# Altium schematic symbol library HIGH_LEVEL_ELECTRONICS_SCH_LIB.SchLib: 16 symbols
Pins are listed as number, name and electrical type; pins without a type are passive.

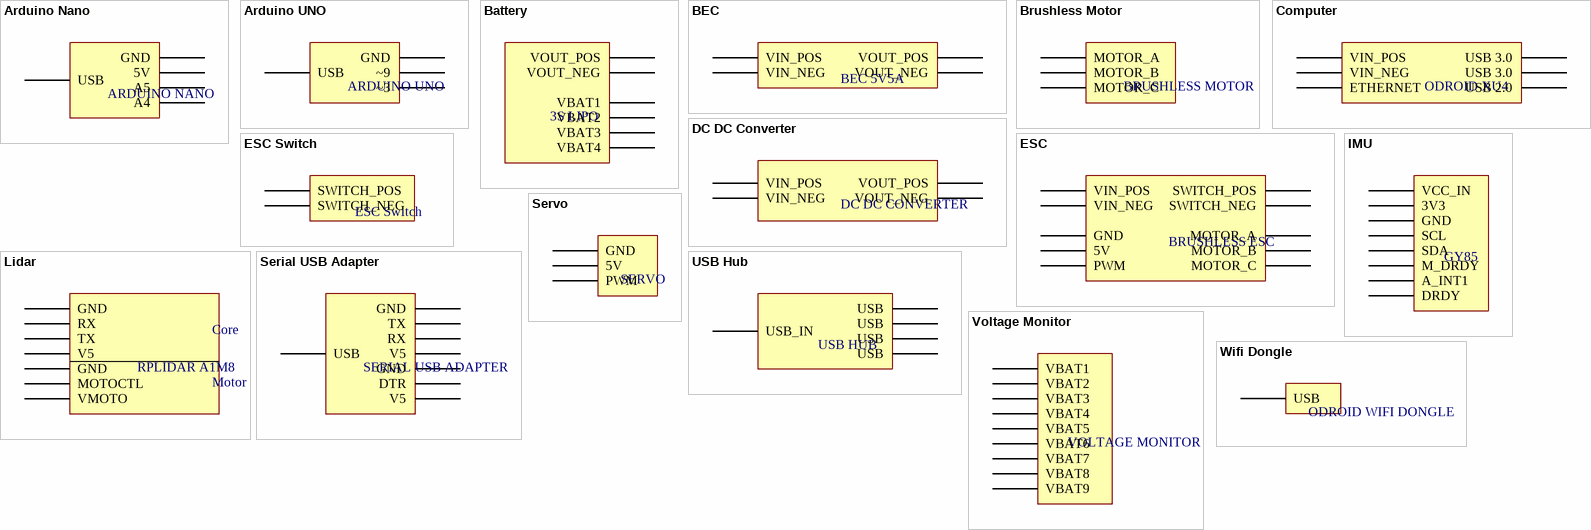
[diagram p0: symbols Arduino Nano to Wifi Dongle]

## Arduino Nano
designator H?, comment ARDUINO NANO
pins: 1 USB, 2 GND, 3 5V, 4 A5, 5 A4

## Arduino UNO
designator H?, comment ARDUINO UNO
pins: 1 USB, 2 GND, 3 ~9, 4 ~3

## Battery
designator PS?, comment 3S LIPO
pins: 1 VOUT_POS, 2 VOUT_NEG, 3 VBAT1, 4 VBAT2, 5 VBAT3, 6 VBAT4

## BEC
designator H?, comment BEC 5V5A
pins: 1 VIN_POS, 2 VIN_NEG, 3 VOUT_POS, 4 VOUT_NEG

## Brushless Motor
designator M?, comment BRUSHLESS MOTOR
pins: 1 MOTOR_A, 2 MOTOR_B, 3 MOTOR_C

## Computer
designator H?, comment ODROID XU4
pins: 1 VIN_POS, 2 VIN_NEG, 3 USB 3.0, 4 USB 3.0, 5 USB 2.0, 6 ETHERNET

## DC DC Converter
designator H?, comment DC DC CONVERTER
pins: 1 VIN_POS, 2 VIN_NEG, 3 VOUT_POS, 4 VOUT_NEG

## ESC
designator H?, comment BRUSHLESS ESC
pins: 1 VIN_POS, 2 VIN_NEG, 3 GND, 4 5V, 5 PWM, 6 MOTOR_A, 7 MOTOR_B, 8 MOTOR_C, 9 SWITCH_POS, 10 SWITCH_NEG

## ESC Switch
designator *
pins: 1 SWITCH_POS, 2 SWITCH_NEG

## IMU
designator H?, comment GY85
pins: 1 VCC_IN, 2 3V3, 3 GND, 4 SCL, 5 SDA, 6 M_DRDY, 7 A_INT1, 8 DRDY

## Lidar
designator H?, comment RPLIDAR A1M8
pins: 1 VMOTO, 2 MOTOCTL, 3 GND, 4 V5, 5 TX, 6 RX, 7 GND
text: Core; Motor

## Serial USB Adapter
designator H?, comment SERIAL USB ADAPTER
pins: 1 GND, 2 TX, 3 RX, 4 V5, 5 GND, 6 DTR, 7 V5, 8 USB

## Servo
designator H?, comment SERVO
pins: 1 GND, 2 5V, 3 PWM

## USB Hub
designator H?, comment USB HUB
pins: 1 USB_IN, 2 USB, 3 USB, 4 USB, 5 USB

## Voltage Monitor
designator H?, comment VOLTAGE MONITOR
pins: 1 VBAT1, 2 VBAT2, 3 VBAT3, 4 VBAT4, 5 VBAT5, 6 VBAT6, 7 VBAT7, 8 VBAT8, 9 VBAT9

## Wifi Dongle
designator H?, comment ODROID WIFI DONGLE
pins: 1 USB